# EAGLE library part NAU8810 (library Nuvoton)
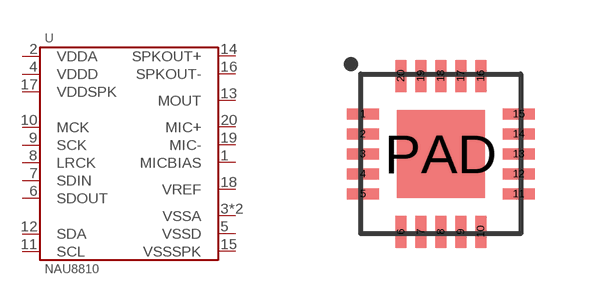
[diagram p0: symbol with the pads of QFN-20-4MMX4MM; footprint QFN-20-4MMX4MM]

Designator prefix U

## NAU8810  [QFN-20-4MMX4MM]
1  MICBIAS
2  VDDA
3  VSSA
4  VDDD
5  VSSD
6  SDOUT
7  SDIN
8  LRCK
9  SCK
10  MCK
11  SCL
12  SDA
13  MOUT
14  SPKOUT+
15  VSSSPK
16  SPKOUT-
17  VDDSPK
18  VREF
19  MIC-
20  MIC+
PAD  VSSA

## Footprint QFN-20-4MMX4MM (pad centres in mm)
smd 0.8 x 0.275: 1 -1.95,1; 2 -1.95,0.5; 3 -1.95,0; 4 -1.95,-0.5; 5 -1.95,-1; 11 1.95,-1; 12 1.95,-0.5; 13 1.95,0; 14 1.95,0.5; 15 1.95,1
smd 0.275 x 0.8: 6 -1,-1.95; 7 -0.5,-1.95; 8 0,-1.95; 9 0.5,-1.95; 10 1,-1.95; 16 1,1.95; 17 0.5,1.95; 18 0,1.95; 19 -0.5,1.95; 20 -1,1.95
smd 2.2 x 2.2: PAD 0,0